# EAGLE library part FSM-21045-20 (library taki-library)
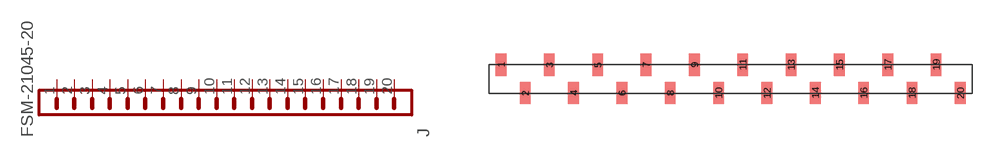
[diagram p24: symbol with the pads of FSM-21045-20; footprint FSM-21045-20]

Designator prefix J

## FSM-21045-20  [FSM-21045-20]
1  1
2  2
3  3
4  4
5  5
6  6
7  7
8  8
9  9
10  10
11  11
12  12
13  13
14  14
15  15
16  16
17  17
18  18
19  19
20  20

## Footprint FSM-21045-20 (pad centres in mm)
smd 0.89 x 1.85: 1 0,1.175; 2 2,-1.175; 3 4,1.175; 4 6,-1.175; 5 8,1.175; 6 10,-1.175; 7 12,1.175; 8 14,-1.175; 9 16,1.175; 10 18,-1.175; 11 20,1.175; 12 22,-1.175; 13 24,1.175; 14 26,-1.175; 15 28,1.175; 16 30,-1.175; 17 32,1.175; 18 34,-1.175; 19 36,1.175; 20 38,-1.175